# Altium integrated library 06_TIME_STICK_279.IntLib: 32 symbols (part 2 of 2)
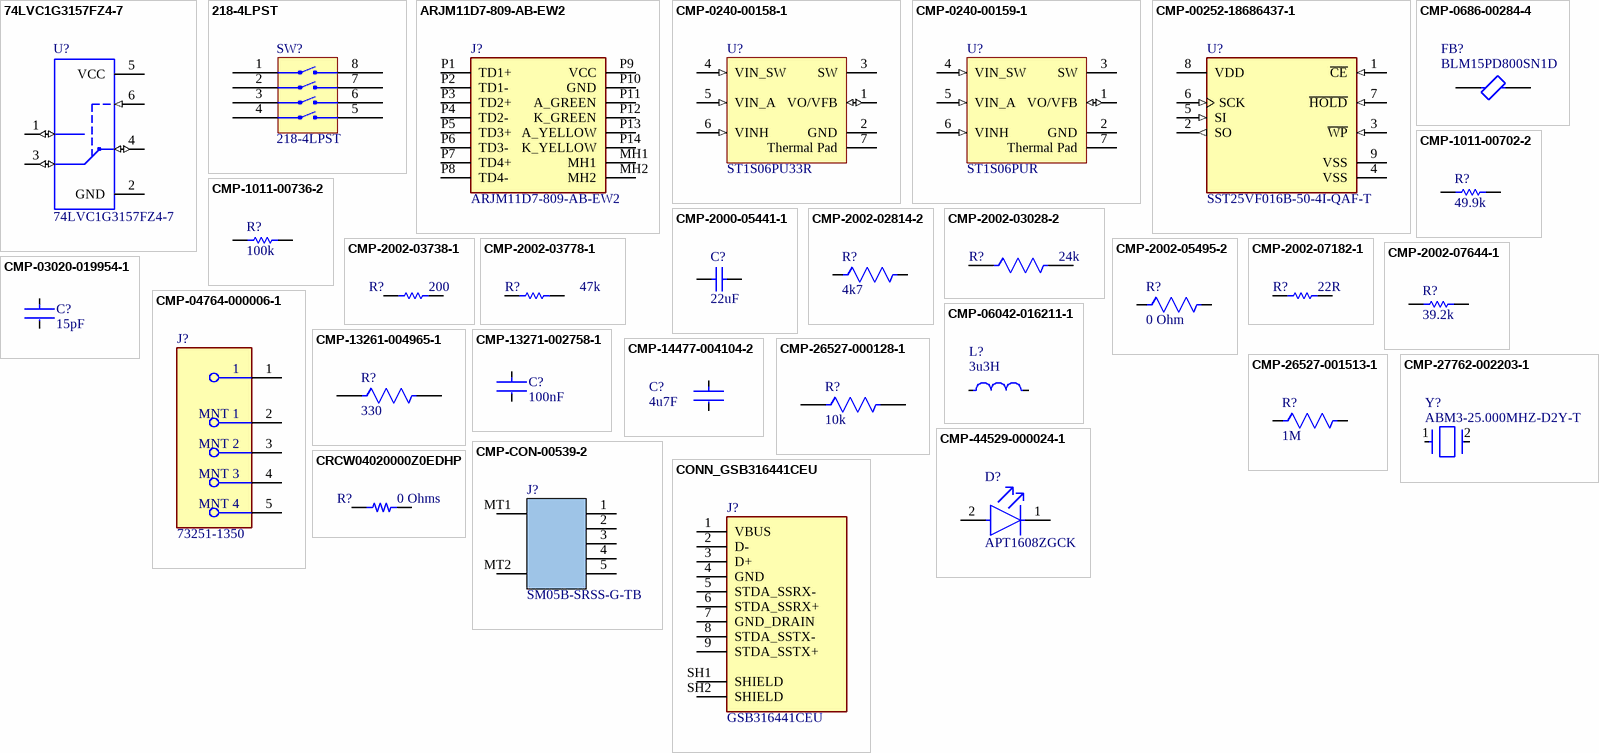
[diagram p2: symbols 74LVC1G3157FZ4-7 to CRCW04020000Z0EDHP]

## CMP-CON-00539-2
designator J?, comment Manufacturer Part Number: SM05B-SRSS-G-TB  (hidden comment: JST_SM05B-SRSS-G-TB)
CONN, B2C/W, HEADER, 5-POS, 1.00MM PITCH, 2.90MM H, RA, TIN, SMT; Manufacturer: JST Sales America Inc.; Internal Part Number: 830-02819-00; Rows: 1; Shrouded: Shrouded - 4 Wall; System: Connector; Insulation: Polyamide (PA), Nylon; Current Rating: 0.7A; Pitch: 0.039" (1.00mm); Style: Board to Cable/Wire; Number of Positions/Contacts: 5; Voltage Rating: 50V; Contact Material: Copper Alloy; Supplier Part Number 1: 455-SM05B-SRSS-G-TBTR-ND; Category: Headers, Male Pins; Color: Natural; Series: SH/SR; Supplier 1: Digikey; Max Operating Temperature: 85°C; Contact Shape: Square; Contact Finish: Tin; Mounting Type: Surface Mount, Right Angle; Part Status: Active; Contact Type: Male Pin; Termination: Solder; Datasheet URL: https://www.jst-mfg.com/product/pdf/eng/eSH.pdf?65e8c309183bb; Signal Pins: 5; Height: 0.114" (2.90mm); RoHS: Yes; Features: Solder Retention; Min Operating Temperature: -25°C; Connector Type: Header
footprint JST_SM05B-SRSS-TB_REV_NOV_29_2010 (Package information: https://www.jst-mfg.com/product/pdf/eng/eSH.pdf?65aee7afe015b)
pins: 1, 2, 3, 4, 5, MT1, MT2

## CONN_GSB316441CEU
designator J?, comment GSB316441CEU
Conn USB 3.0 Type A PL 9 POS Solder RA SMD 9 Terminal 1 Port; Manufacturer: Amphenol Commercial; MF: Amphenol; Current Rating: 1.8A; Number of Contacts: 9; SnapEDA_Link: https://www.snapeda.com/parts/GSB316441CEU/Amphenol/view-part/?ref=snap; Package: None; Value: *; MP: GSB316441CEU; Check_prices: https://www.snapeda.com/parts/GSB316441CEU/Amphenol/view-part/?ref=eda; Supplier: Digikey; Supplier Part Number: GSB316441CEUCT-ND; Manufacturer Part Number: GSB316441CEU; RoHS: Yes; Category: USB Connectors; Stock: 13312; Pricing: 1=2.04, 10=1.775, 25=1.6996, 50=1.6618, 100=1.5863, 250=1.43524 (USD); Mounting Technology: Surface Mount,Horizontal; Contact Material: Copper Alloy; Contact Plating: Gold; Package Quantity: 1; Packaging: Tape and Reel; Connector Type: USB; Termination: SMD/SMT; Orientation: Right Angle; Series: GSB3; Radiation Hardening: No; RoHS Compliant: Yes; ComponentLink1URL: https://datasheet.ciiva.com/10945/gsb316441ceu-10945197.pdf?src-supplier=Avnet; ComponentLink1Description: https://datasheet.ciiva.com/10945/gsb316441ceu-10945197.pdf?src-supplier=Avnet; Supplier 1: Digikey; Supplier Part Number 1: GSB316441CEUCT-ND
footprint CONN_AMPHENOL_GSB316441CEU
pins: 1 VBUS (power), 2 D-, 3 D+, 4 GND (power), 5 STDA_SSRX-, 6 STDA_SSRX+, 7 GND_DRAIN (power), 8 STDA_SSTX-, 9 STDA_SSTX+, SH1 SHIELD, SH2 SHIELD

## CRCW04020000Z0EDHP
designator R?, comment 0 Ohms
RES SMD 0 OHM JUMPER 1/5W 0402; Part Number: CRCW04020000Z0EDHP; Manufacturer: Vishay Dale; Power (Watts): 0.2W, 1/5W; Value: 0 Ohms; ComponentLink1Description: Datasheet; ComponentLink1URL: http://www.vishay.com/docs/20043/crcwhpe3.pdf; ComponentLink2Description: DigiKey Link; ComponentLink2URL: https://www.digikey.com/en/products/detail/vishay-dale/CRCW04020000Z0EDHP/2222496; Composition: Thick Film; Device Package: 0402 (1005 Metric); Features: Automotive AEC-Q200, Pulse Withstanding; Height - Seated (Max): 0.016" (0.40mm); LastUpdated: 2/9/2024 8:30:21 PM; Lifecycle Status: Active; Minimum Order: 1; Number of Terminations: 2; Operating Temperature: -55°C ~ 155°C; Package / Case: 0402 (1005 Metric); Packaging: TapeAndReel; PartId: 3131; Part Status: Active; Price: 0.01; Ratings: AEC-Q200; Resistance: 0 Ohms; Series: CRCW-HP; Size / Dimension: 0.039" L x 0.020" W (1.00mm x 0.50mm); Supplier 1: DigiKey; Supplier Part Number 1: 541-0.0YBCT-ND; Supplier Device Package: 0402; Tolerance: Jumper
footprint RES 0402_1005
pins: 1, 2

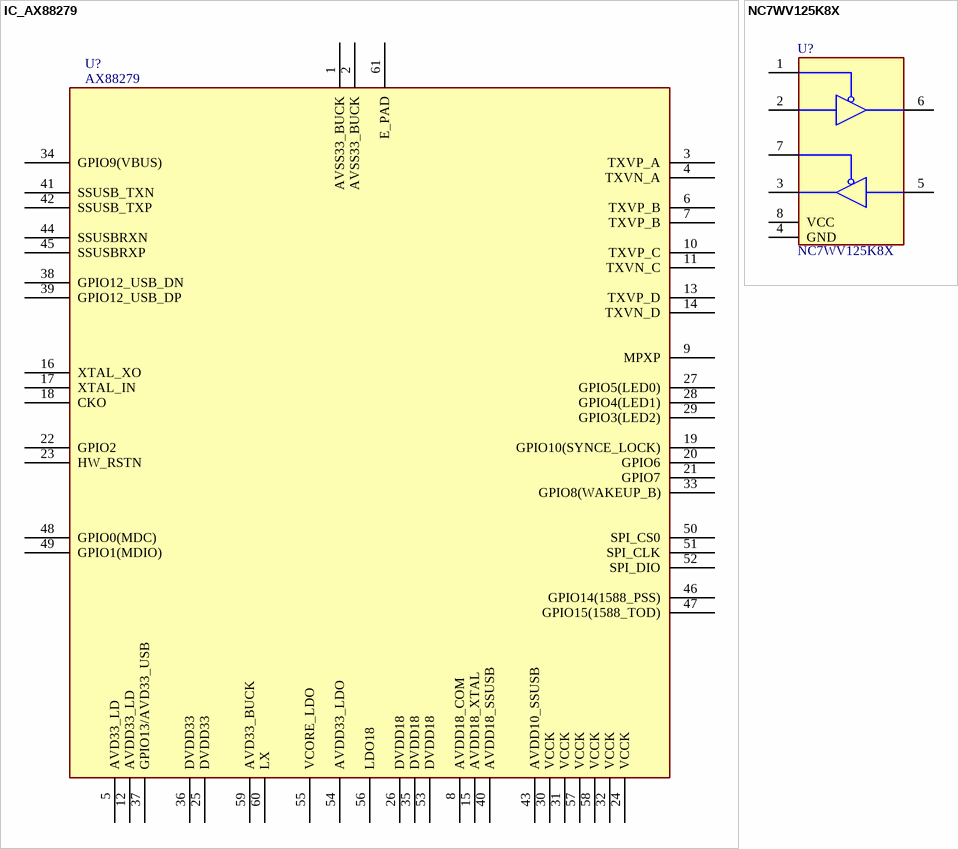
[diagram p1: symbols IC_AX88279 to NC7WV125K8X]

## IC_AX88279
designator U?, comment AX88279
footprint IC_AX88279
pins: 1 AVSS33_BUCK, 2 AVSS33_BUCK, 3 TXVP_A, 4 TXVN_A, 5 AVD33_LD, 6 TXVP_B, 7 TXVP_B, 8 AVDD18_COM, 9 MPXP, 10 TXVP_C, 11 TXVN_C, 12 AVDD33_LD, 13 TXVP_D, 14 TXVN_D, 15 AVDD18_XTAL, 16 XTAL_XO, 17 XTAL_IN, 18 CKO, 19 GPIO10(SYNCE_LOCK), 20 GPIO6, 21 GPIO7, 22 GPIO2, 23 HW_RSTN, 24 VCCK, 25 DVDD33, 26 DVDD18, 27 GPIO5(LED0), 28 GPIO4(LED1), 29 GPIO3(LED2), 30 VCCK, 31 VCCK, 32 VCCK, 33 GPIO8(WAKEUP_B), 34 GPIO9(VBUS), 35 DVDD18, 36 DVDD33, 37 GPIO13/AVD33_USB, 38 GPIO12_USB_DN, 39 GPIO12_USB_DP, 40 AVDD18_SSUSB, 41 SSUSB_TXN, 42 SSUSB_TXP, 43 AVDD10_SSUSB, 44 SSUSBRXN, 45 SSUSBRXP, 46 GPIO14(1588_PSS), 47 GPIO15(1588_TOD), 48 GPIO0(MDC), 49 GPIO1(MDIO), 50 SPI_CS0, 51 SPI_CLK, 52 SPI_DIO, 53 DVDD18, 54 AVDD33_LDO, 55 VCORE_LDO, 56 LDO18, 57 VCCK, 58 VCCK, 59 AVD33_BUCK, 60 LX, 61 E_PAD

## NC7WV125K8X
designator U?
Integrated Circuit; Manufacturer_Name: ON Semiconductor; Datasheet Link: https://www.mouser.com/datasheet/2/308/NC7WV125-1301459.pdf; Height: 0.9mm; Manufacturer_Part_Number: NC7WV125K8X; Mouser Part Number: 512-NC7WV125K8X; Mouser Price/Stock: https://www.mouser.com/Search/Refine.aspx?Keyword=512-NC7WV125K8X; Arrow Part Number: NC7WV125K8X; Arrow Price/Stock: https://www.arrow.com/en/products/nc7wv125k8x/on-semiconductor
footprint SOP50P310X90-8N
pins: 1, 2, 3, 4 GND, 5, 6, 7, 8 VCC